# EAGLE library part HY28A (library cTechnologies_connectors)
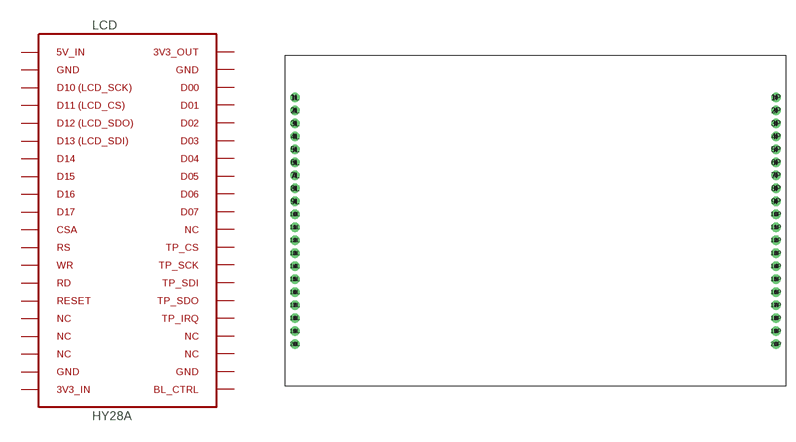
[diagram p9: symbol with the pads of HY28A_CONNECTORS; footprint HY28A_CONNECTORS]

Designator prefix LCD

## HY28A  [HY28A_CONNECTORS]
1L  1L
1P  1P
2L  2L
2P  2P
3L  3L
3P  3P
4L  4L
4P  4P
5L  5L
5P  5P
6L  6L
6P  6P
7L  7L
7P  7P
8L  8L
8P  8P
9L  9L
9P  9P
10L  10L
10P  10P
11L  11L
11P  11P
12L  12L
12P  12P
13L  13L
13P  13P
14L  14L
14P  14P
15L  15L
15P  15P
16L  16L
16P  16P
17L  17L
17P  17P
18L  18L
18P  18P
19L  19L
19P  19P
20L  20L
20P  20P

## Footprint HY28A_CONNECTORS (pad centres in mm)
drill 0.8 pad 1.422: 1L -37,19; 1P 37,19; 2L -37,17; 2P 37,17; 3L -37,15; 3P 37,15; 4L -37,13; 4P 37,13; 5L -37,11; 5P 37,11; 6L -37,9; 6P 37,9; 7L -37,7; 7P 37,7; 8L -37,5; 8P 37,5; 9L -37,3; 9P 37,3; 10L -37,1; 10P 37,1; 11L -37,-1; 11P 37,-1; 12L -37,-3; 12P 37,-3; 13L -37,-5; 13P 37,-5; 14L -37,-7; 14P 37,-7; 15L -37,-9; 15P 37,-9; 16L -37,-11; 16P 37,-11; 17L -37,-13; 17P 37,-13; 18L -37,-15; 18P 37,-15; 19L -37,-17; 19P 37,-17; 20L -37,-19; 20P 37,-19